# Altium footprint library fszhang.PcbLib: 298 footprints (part 8 of 19)
Each footprint in its own frame and in the unit in brackets; x right, y up, seen from the top. Pads: shape width x height; smd on the part's side, far side on the other; paste and mask are expansions set on the pad; w line width, h text height; cw(c..) or ccw(c..) is an arc to the next point about the centre after c.
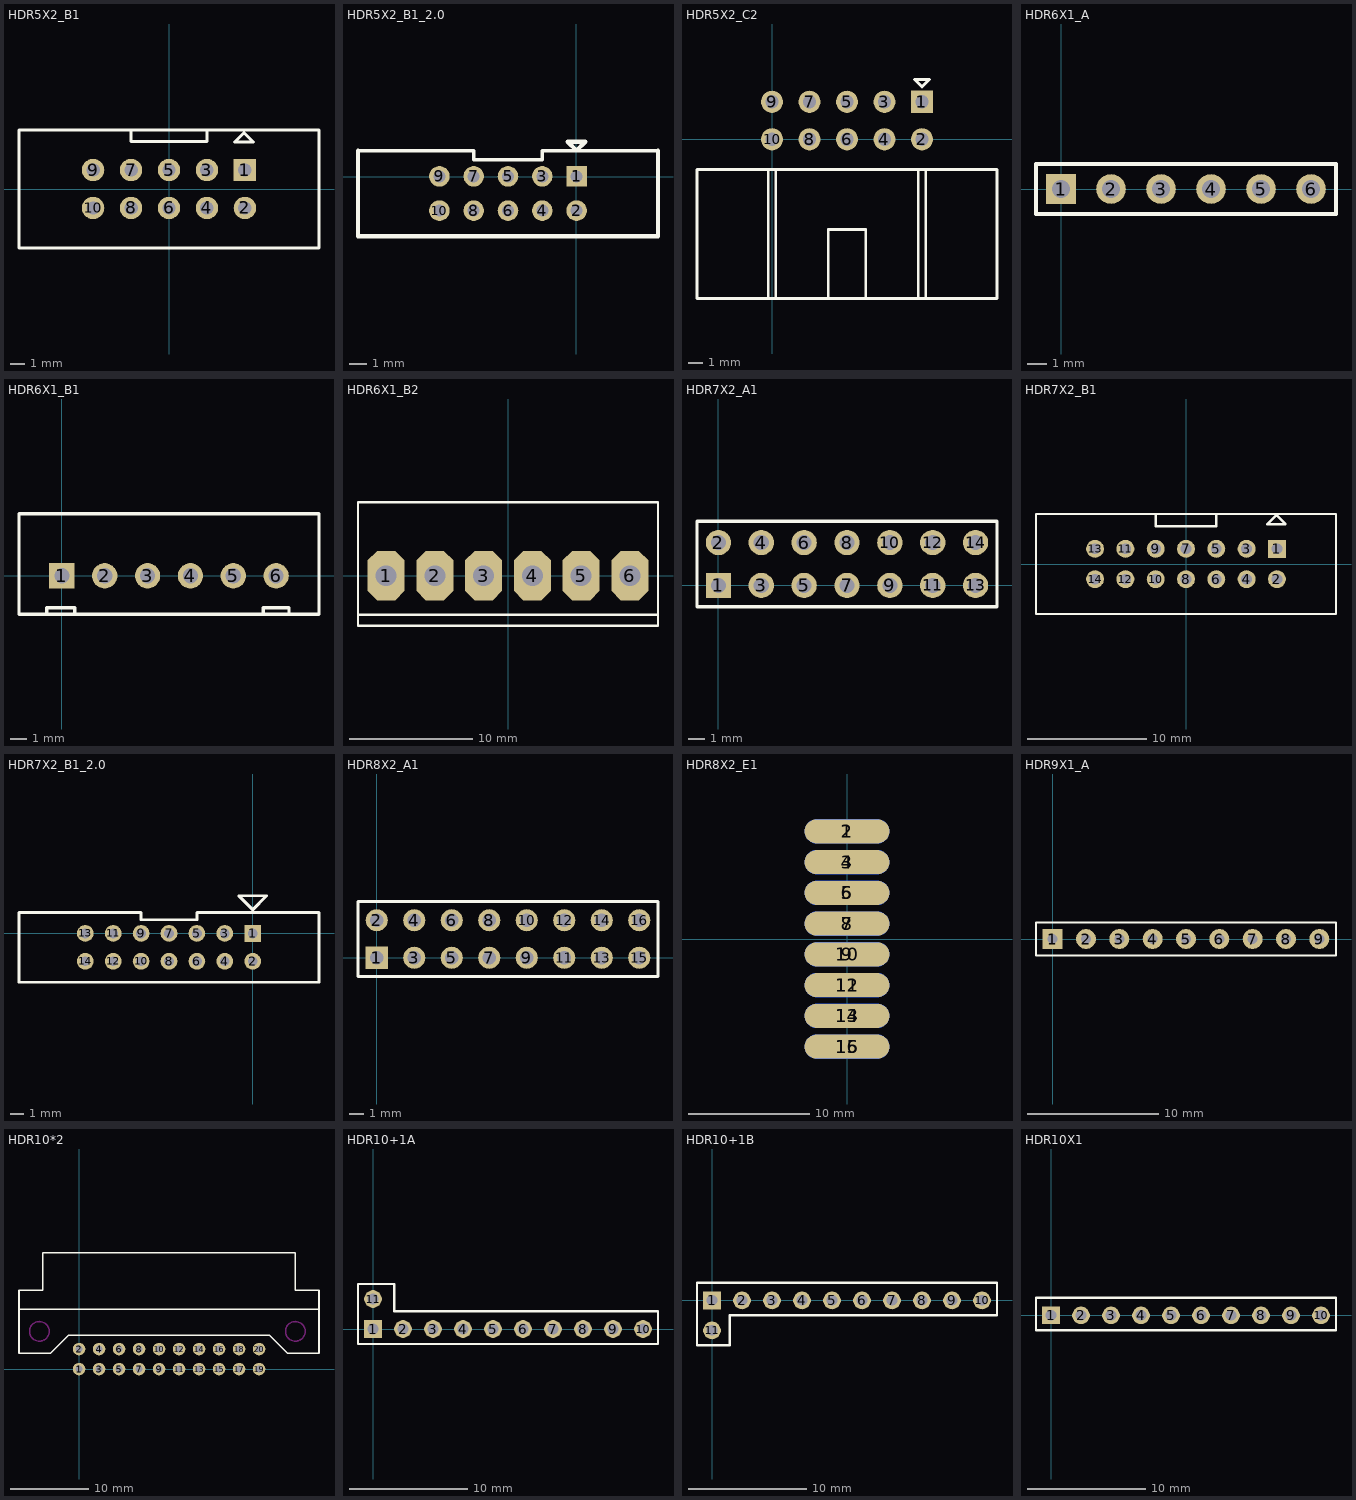
[diagram p7: the footprints below, top view; thin cyan lines are the x and y axes]

## HDR5X2_B1 [mm] "Connector; Header; 5x2 Position"
height 1.2
pads (10):
  rect 1.5x1.5 hole 0.9: 1(5.08,1.27)
  round 1.5 hole 0.9: 2(5.08,-1.27) 3(2.54,1.27) 4(2.54,-1.27) 5(0,1.27) 6(0,-1.27) 7(-2.54,1.27) 8(-2.54,-1.27) 9(-5.08,1.27) 10(-5.08,-1.27)
Top Overlay:
  lines w0.2: -2.54,3.937 -2.54,3.175 2.54,3.175 2.54,3.937 ; -10.033,-3.937 -10.033,3.937 10.033,3.937 10.033,-3.937 -10.033,-3.937 ; 4.385,3.128 5.02,3.763 5.655,3.128 4.512,3.128 4.385,3.128

## HDR5X2_B1_2.0 [mm]
pads (10):
  rect 1.2x1.2 hole 0.7: 1(0.006,0.012)
  round 1.2 hole 0.7: 2(0.006,-1.988) 3(-1.994,0.012) 4(-1.994,-1.988) 5(-3.994,0.012) 6(-3.994,-1.988) 7(-5.994,0.012) 8(-5.994,-1.988) 9(-7.994,0.012) 10(-7.994,-1.988)
Top Overlay:
  lines w0.2: -12.744,1.512 -5.994,1.512 -5.994,0.987 -1.994,0.987 -1.994,1.512 4.756,1.512
  lines w0.254: -12.744,1.512 -12.744,-3.488 4.756,-3.488 4.756,1.512 ; -0.508,2.032 0,1.524 0.508,2.032 -0.508,2.032

## HDR5X2_C2 [mm]
height 1.75
pads (10):
  rect 1.5x1.5 hole 0.9: 1(10.16,2.54)
  round 1.5 hole 0.9: 2(10.16,0) 3(7.62,2.54) 4(7.62,0) 5(5.08,2.54) 6(5.08,0) 7(2.54,2.54) 8(2.54,0) 9(0,2.54) 10(0,0)
Top Overlay:
  lines w0.2: -0.254,-10.795 -0.254,-2.032 ; 0.254,-10.795 0.254,-2.032 ; 3.81,-10.795 3.81,-6.096 6.35,-6.096 6.35,-10.795 ; 9.906,-10.795 9.906,-2.032 ; 10.414,-10.795 10.414,-2.032 ; -5.08,-10.795 -5.08,-2.032 15.24,-2.032 15.24,-10.795 -5.08,-10.795 ; 9.652,4.064 10.541,4.064 10.668,4.064 10.16,3.556 9.652,4.064

## HDR6X1_A [mm] "Connector; Header; 4 Position"
height 1.6
pads (6):
  rect 1.5x1.5 hole 0.9: 1(0,0)
  round 1.5 hole 0.9: 2(2.54,0) 3(5.08,0) 4(7.62,0) 5(10.16,0) 6(12.7,0)
Top Overlay:
  lines w0.2: -1.27,-1.27 -1.27,1.27 13.97,1.27 13.97,-1.27 -1.27,-1.27

## HDR6X1_B1 [mm] "Connector; Header; 4 Position"
height 1.6
pads (6):
  rect 1.5x1.5 hole 0.9: 1(0,0)
  round 1.5 hole 0.9: 2(2.54,0) 3(5.08,0) 4(7.62,0) 5(10.16,0) 6(12.7,0)
Top Overlay:
  lines w0.2: -0.889,-2.286 -0.889,-1.905 0.762,-1.905 0.762,-2.286 ; 11.938,-2.286 11.938,-1.905 13.462,-1.905 13.462,-2.286 ; -2.54,-2.286 15.24,-2.286 15.24,3.683 -2.54,3.683 -2.54,-2.286
3D body: height 1.5, standoff 0, extent -2.413,-2.159 15.24,3.556

## HDR6X1_B2 [mm] "Connector; Header; 3 Position"
height 1.5
pads (6):
  oct 3x4 hole 1.7: 1(-9.906,0) 2(-5.944,0) 3(-1.981,0) 4(1.981,0) 5(5.944,0) 6(9.906,0)
Top Overlay:
  lines w0.2: -12.192,-3.175 12.192,-3.175 ; -2.54,-4.064 2.54,-4.064 ; -12.192,-4.064 -12.192,5.969 12.192,5.969 12.192,-4.064 -12.192,-4.064

## HDR7X2_A1 [mm] "Connector; Header; 7x2 Position"
height 1.75
pads (14):
  rect 1.5x1.5 hole 0.9: 1(0,0)
  round 1.5 hole 0.9: 2(0,2.54) 3(2.54,0) 4(2.54,2.54) 5(5.08,0) 6(5.08,2.54) 7(7.62,0) 8(7.62,2.54) 9(10.16,0) 10(10.16,2.54) 11(12.7,0) 12(12.7,2.54) 13(15.24,0) 14(15.24,2.54)
Top Overlay:
  lines w0.2: -1.27,-1.27 16.51,-1.27 16.51,3.81 -1.27,3.81 -1.27,-1.27

## HDR7X2_B1 [mm] "Connector"
height 2.65
pads (14):
  rect 1.5x1.5 hole 0.9: 1(7.62,1.27)
  round 1.5 hole 0.9: 2(7.62,-1.27) 3(5.08,1.27) 4(5.08,-1.27) 5(2.54,1.27) 6(2.54,-1.27) 7(0,1.27) 8(0,-1.27) 9(-2.54,1.27) 10(-2.54,-1.27) 11(-5.08,1.27) 12(-5.08,-1.27) 13(-7.62,1.27) 14(-7.62,-1.27)
Top Overlay:
  lines w0.2: -2.54,4.191 -2.54,3.175 2.54,3.175 2.54,4.191 ; -12.573,-4.191 -12.573,4.191 12.573,4.191 12.573,-4.191 -12.573,-4.191 ; 6.818,3.347 6.945,3.347 8.342,3.347 7.58,4.109 6.818,3.347

## HDR7X2_B1_2.0 [mm]
pads (14):
  rect 1.2x1.2 hole 0.7: 1(0,0)
  round 1.2 hole 0.7: 2(0,-2) 3(-2,0) 4(-2,-2) 5(-4,0) 6(-4,-2) 7(-6,0) 8(-6,-2) 9(-8,0) 10(-8,-2) 11(-10,0) 12(-10,-2) 13(-12,0) 14(-12,-2)
Top Overlay:
  lines w0.2: -16.75,-3.5 -16.75,1.5 -8,1.5 -8,0.975 -4,0.975 -4,1.5 4.75,1.5 4.75,-3.5 -16.75,-3.5 ; -1,2.7 0,1.7 1,2.7 -1,2.7

## HDR8X2_A1 [mm] "Connector; Header; 8x2 Position"
pads (16):
  rect 1.5x1.5 hole 0.9: 1(0,0)
  round 1.5 hole 0.9: 2(0,2.54) 3(2.54,0) 4(2.54,2.54) 5(5.08,0) 6(5.08,2.54) 7(7.62,0) 8(7.62,2.54) 9(10.16,0) 10(10.16,2.54) 11(12.7,0) 12(12.7,2.54) 13(15.24,0) 14(15.24,2.54) 15(17.78,0) 16(17.78,2.54)
Top Overlay:
  lines w0.2: -1.27,-1.27 -1.27,3.81 19.05,3.81 19.05,-1.27 -1.27,-1.27

## HDR8X2_E1 [mm]
pads (16):
  oval 7x2 smd: 1(0,8.89) 3(0,6.35) 5(0,3.81) 7(0,1.27) 9(0,-1.27) 11(0,-3.81) 13(0,-6.35) 15(0,-8.89)
  oval 7x2 smd far side: 2(0,8.89) 4(0,6.35) 6(0,3.81) 8(0,1.27) 10(0,-1.27) 12(0,-3.81) 14(0,-6.35) 16(0,-8.89)

## HDR9X1_A [mil] "2.54mm"
height 196.85
pads (9):
  rect 60x60 hole 30: 1(0,0)
  round 60 hole 30: 2(100,0) 3(200,0) 4(300,0) 5(400,0) 6(500,0) 7(600,0) 8(700,0) 9(800,0)
Top Overlay:
  lines w5.91: -50,-50 -50,50 850,50 850,-50 -50,-50

## HDR10*2 [mm]
pads (20):
  round 1.6 hole 0.9: 1(0,0) 2(0,2.54) 3(2.54,0) 4(2.54,2.54) 5(5.08,0) 6(5.08,2.54) 7(7.62,0) 8(7.62,2.54) 9(10.16,0) 10(10.16,2.54) 11(12.7,0) 12(12.7,2.54) 13(15.24,0) 14(15.24,2.54) 15(17.78,0) 16(17.78,2.54) 17(20.32,0) 18(20.32,2.54) 19(22.86,0) 20(22.86,2.54)
Top Overlay:
  lines w0.2: -7.63,7.62 30.47,7.62 ; -7.63,2 -7.63,10 -4.63,10 -4.63,14.8 27.47,14.8 27.47,10 30.47,10 30.47,2 26.47,2 24.17,4.3 -1.33,4.3 -3.63,2 -7.63,2
Keep-Out Layer:
  circle w0.2: c27.47,4.8 r1.25
  circle w0.2: c-5.04,4.8 r1.25

## HDR10+1A [mm] "Connector; Header; 10x2 Position"
height 1.75
pads (11):
  rect 1.5x1.5 hole 0.9: 1(0,0)
  round 1.5 hole 0.9: 2(2.54,0) 3(5.08,0) 4(7.62,0) 5(10.16,0) 6(12.7,0) 7(15.24,0) 8(17.78,0) 9(20.32,0) 10(22.86,0) 11(0,2.54)
Top Overlay:
  lines w0.2: -1.27,-1.27 -1.27,3.81 1.79,3.81 1.8,3.8 1.8,1.5 24.13,1.5 24.13,-1.27 0.635,-1.27 -1.27,-1.27

## HDR10+1B [mm] "Connector; Header; 10x2 Position"
height 1.75
pads (11):
  rect 1.5x1.5 hole 0.9: 1(0,0)
  round 1.5 hole 0.9: 2(2.54,0) 3(5.08,0) 4(7.62,0) 5(10.16,0) 6(12.7,0) 7(15.24,0) 8(17.78,0) 9(20.32,0) 10(22.86,0) 11(0,-2.54)
Top Overlay:
  lines w0.2: -1.27,-3.8 1.5,-3.8 1.5,-1.27 4.03,-1.27 24.13,-1.27 24.13,1.5 21.5,1.5 -1.27,1.5 -1.27,-3.8

## HDR10X1 [mm] "Connector; Header; 10x2 Position"
height 1.75
pads (10):
  rect 1.5x1.5 hole 0.9: 1(0,0)
  round 1.5 hole 0.9: 2(2.54,0) 3(5.08,0) 4(7.62,0) 5(10.16,0) 6(12.7,0) 7(15.24,0) 8(17.78,0) 9(20.32,0) 10(22.86,0)
Top Overlay:
  lines w0.2: -1.27,-1.27 -1.27,1.5 24.13,1.5 24.13,-1.27 0.635,-1.27 -1.27,-1.27